# EAGLE library part HEF40106BT (library HEF4010BT_653)
6-Channel Schmitt Trigger Inverter: Voltage Supply: 3-15V Input Logic Level - Low: 1.5-4V Input Logic Level - High: 3.5-11V Package: 14-SOIC (0.154", 3.90mm Width) Link: https://www.digikey.com/en/products/detail/nexperia-usa-inc/HEF40106BT-653/763286
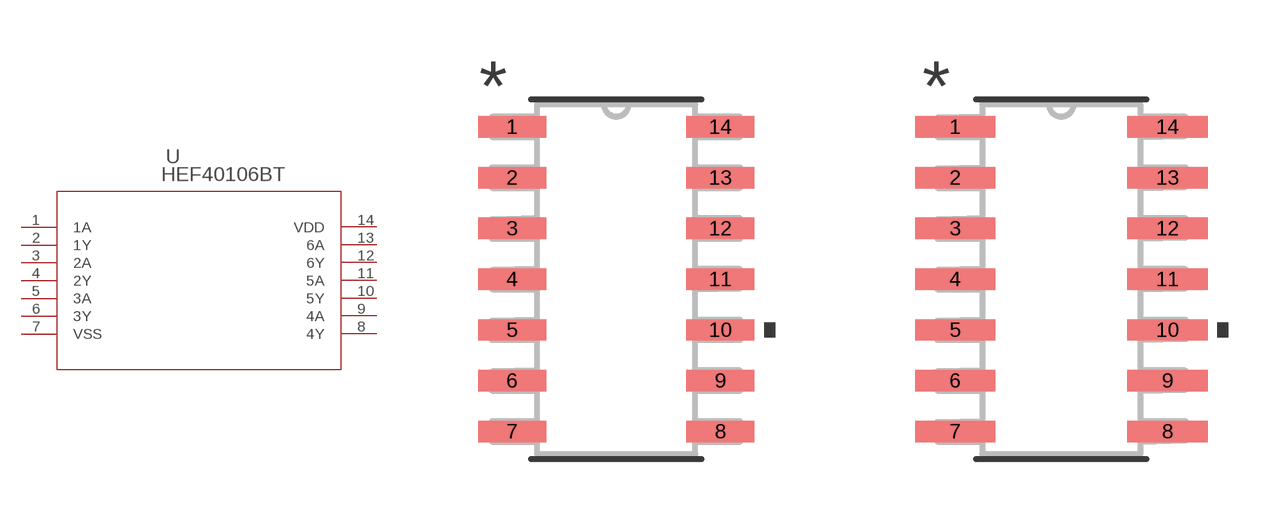
[diagram p0: symbol with the pads of SOT108-1_NXP; footprints SOT108-1_NXP, SOT108-1_NXP-M]

Designator prefix U

## HEF40106BT (COPYRIGHT: Copyright (C) 2022 Ultra Librarian. All rights reserved.; DIGI-KEY_PART_NUMBER_1: 568-1682-2-ND; DIGI-KEY_PART_NUMBER_2: 568-1682-1-ND; DIGI-KEY_PART_NUMBER_3: 568-1682-6-ND; DIGI-KEY_PART_NUMBER_4: 568-8346-5-ND; MANUFACTURER_PART_NUMBER: HEF40106BT; MFR_NAME: NXP)  [SOT108-1_NXP]
1  1A  pas
2  1Y  pas
3  2A  pas
4  2Y  pas
5  3A  pas
6  3Y  pas
7  VSS  pas
8  4Y  pas
9  4A  pas
10  5Y  pas
11  5A  pas
12  6Y  pas
13  6A  pas
14  VDD  pas

## HEF40106BTSOT108-1_NXP-M (COPYRIGHT: Copyright (C) 2022 Ultra Librarian. All rights reserved.; DIGI-KEY_PART_NUMBER_1: 568-1682-2-ND; DIGI-KEY_PART_NUMBER_2: 568-1682-1-ND; DIGI-KEY_PART_NUMBER_3: 568-1682-6-ND; DIGI-KEY_PART_NUMBER_4: 568-8346-5-ND; MANUFACTURER_PART_NUMBER: HEF40106BT; MFR_NAME: NXP)  [SOT108-1_NXP-M]
Pads as for SOT108-1_NXP

## HEF40106BTSOT108-1_NXP-L (COPYRIGHT: Copyright (C) 2022 Ultra Librarian. All rights reserved.; DIGI-KEY_PART_NUMBER_1: 568-1682-2-ND; DIGI-KEY_PART_NUMBER_2: 568-1682-1-ND; DIGI-KEY_PART_NUMBER_3: 568-1682-6-ND; DIGI-KEY_PART_NUMBER_4: 568-8346-5-ND; MANUFACTURER_PART_NUMBER: HEF40106BT; MFR_NAME: NXP)  [SOT108-1_NXP-L]
Pads as for SOT108-1_NXP

## Footprint SOT108-1_NXP (pad centres in mm)
smd 1.702 x 0.533: 1 -2.603,3.81; 2 -2.603,2.54; 3 -2.603,1.27; 4 -2.603,0; 5 -2.603,-1.27; 6 -2.603,-2.54; 7 -2.603,-3.81; 8 2.603,-3.81; 9 2.603,-2.54; 10 2.603,-1.27; 11 2.603,0; 12 2.603,1.27; 13 2.603,2.54; 14 2.603,3.81

## Footprint SOT108-1_NXP-M (pad centres in mm)
smd 2.007 x 0.533: 1 -2.654,3.81; 2 -2.654,2.54; 3 -2.654,1.27; 4 -2.654,0; 5 -2.654,-1.27; 6 -2.654,-2.54; 7 -2.654,-3.81; 8 2.654,-3.81; 9 2.654,-2.54; 10 2.654,-1.27; 11 2.654,0; 12 2.654,1.27; 13 2.654,2.54; 14 2.654,3.81

## Footprint SOT108-1_NXP-L (pad centres in mm)
smd 1.397 x 0.483: 1 -2.553,3.81; 2 -2.553,2.54; 3 -2.553,1.27; 4 -2.553,0; 5 -2.553,-1.27; 6 -2.553,-2.54; 7 -2.553,-3.81; 8 2.553,-3.81; 9 2.553,-2.54; 10 2.553,-1.27; 11 2.553,0; 12 2.553,1.27; 13 2.553,2.54; 14 2.553,3.81